# Altium footprint library 12W_Axial.PcbLib: 1 footprints
Each footprint in its own frame and in the unit in brackets; x right, y up, seen from the top. Pads: shape width x height; smd on the part's side, far side on the other; paste and mask are expansions set on the pad; w line width, h text height; cw(c..) or ccw(c..) is an arc to the next point about the centre after c.
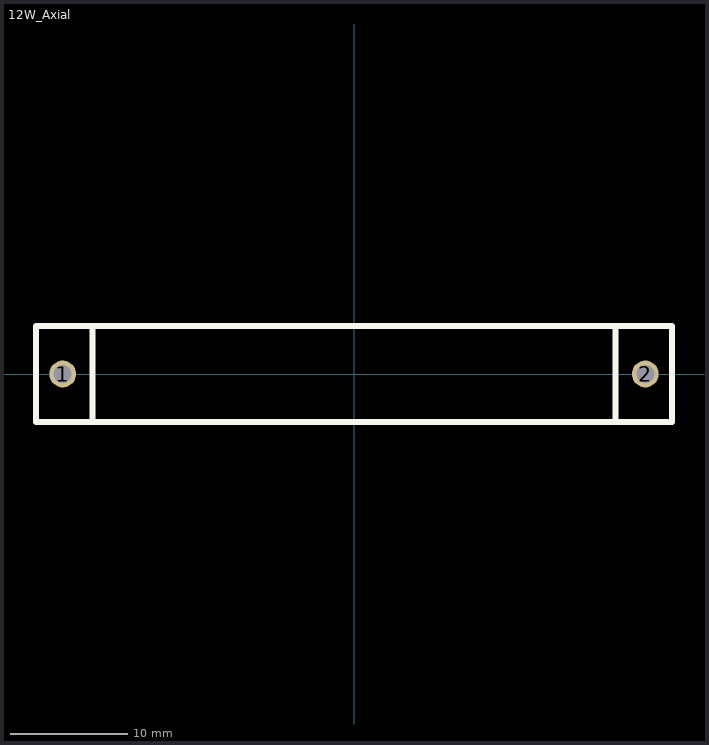
[diagram p0: the footprint, top view; thin cyan lines are the x and y axes]

## 12W_Axial [mil]
pads (2):
  round 90 hole 60: 1(-975,0) 2(975,0)
Top Overlay:
  lines w20: -875,-160 -875,160 ; 875,-160 875,160 ; -1065,-160 1065,-160 1065,160 -1065,160 -1065,-160